# Altium integrated library Coaxial Connectors (RF).IntLib: 3 symbols
Pins are listed as number, name and electrical type; pins without a type are passive.

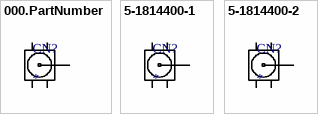
[diagram p0: symbols 000.PartNumber to 5-1814400-2]

## 000.PartNumber
designator CN?
Digikey Description; Manufacturer: *; Series: *; Package: *; Connector Style: *; Connector Type: *; Contact Termination: *; Shield Termination: *; Impedance: *; Mounting Type: *; Mounting Feature: *; Cable Group: *; Fastening Type: *; Features: *; Housing Color: *; Ingress Protection: *; Includes: *; Body Material: *; Body Finish: *; Center Contact Plating: *; Dielectric Material: *; Operating Temperature: *; Center Contact Material: *; Mating Cycles: *; Insertion Loss: *; Number of Ports: *; Frequency - Max: *; Voltage Rating: *; Base Product Number: *; Ozdisan Link: *; Digikey Link: *; Farnell TR Link: *; Mouser Link: *
pins: 1, 2, 3, 4, 5

## 5-1814400-1
designator CN?
CONN SMA JACK R/A 50 OHM PCB; Manufacturer: TE Connectivity AMP Connectors; Connector Type: Jack, Female Socket; Contact Termination: Solder; Impedance: 50 Ohm; Body Material: Zinc Alloy; Body Finish: Gold; Dielectric Material: Polytetrafluoroethylene (PTFE); Center Contact Material: Beryllium Copper; Mating Cycles: 500; Number of Ports: 1; Frequency - Max: 3 GHz; Voltage Rating: 500 V; Base Product Number: 1814400; Series: ZDC, Greenpar; Package: Bulk; Connector Style: SMA; Shield Termination: Solder; Mounting Type: Through Hole, Right Angle; Mounting Feature: -; Cable Group: -; Fastening Type: Threaded; Features: -; Housing Color: Gold; Ingress Protection: -; Includes: -; Center Contact Plating: Gold; Operating Temperature: -55°C ~ 85°C; Insertion Loss: -; Ozdisan Link: https://ozdisan.com/konnektor-ve-baglanti-elemanlari/koaksiyel-konnektorler/sma-konnektorler/5-1814400-1; Digikey Link: https://www.digikey.com/en/products/detail/te-connectivity-amp-connectors/5-1814400-1/1755981?s=N4IgTCBcDaIKwFoCMAOJAWdAGLyQF0BfIA; Farnell TR Link: https://tr.farnell.com/te-connectivity/5-1814400-2/rf-coax-conn-r-a-sma-50-ohm-pcb/dp/3364890?st=5-1814400-1; Mouser Link: https://eu.mouser.com/ProductDetail/TE-Connectivity/5-1814400-1?qs=%2Fha2pyFadujKE17%252BH2mL0miH1qWZej33IPkdNKYfD8PUef1nRPfkKQ%3D%3D
footprint TE_5-1814400
pins: 1, 2, 3, 4, 5

## 5-1814400-2
designator CN?
CONN SMA JACK R/A 50 OHM PCB; Manufacturer: TE Connectivity AMP Connectors; Connector Type: Jack, Female Socket; Contact Termination: Solder; Impedance: 50 Ohm; Body Material: Zinc Alloy; Body Finish: Gold; Dielectric Material: Polytetrafluoroethylene (PTFE); Center Contact Material: Beryllium Copper; Number of Ports: 1; Base Product Number: 1814400; Series: -; Package: Tape & Reel (TR); Connector Style: SMA; Shield Termination: Solder; Mounting Type: Through Hole, Right Angle; Mounting Feature: -; Cable Group: -; Fastening Type: Threaded; Features: -; Housing Color: Gold; Ingress Protection: -; Includes: -; Center Contact Plating: Gold; Operating Temperature: -55°C ~ 85°C; Mating Cycles: -; Insertion Loss: -; Frequency - Max: -; Voltage Rating: -; Ozdisan Link: -; Digikey Link: https://www.digikey.com/en/products/detail/te-connectivity-amp-connectors/5-1814400-2/11498408?s=N4IgTCBcDaIKwFoCMAOJAWdAGLCIF0BfIA; Farnell TR Link: https://tr.farnell.com/te-connectivity/5-1814400-2/rf-coax-conn-r-a-sma-50-ohm-pcb/dp/3364890?ost=5-1814400-2; Mouser Link: https://eu.mouser.com/ProductDetail/TE-Connectivity/5-1814400-2?qs=%2Fha2pyFadujKE17%252BH2mL0vnaxmDHw6KfdL0m4XHQiiLGBHzrpNa2eg%3D%3D
footprint TE_5-1814400
pins: 1, 2, 3, 4, 5